# Altium schematic symbol library TVS2200DRVR.SchLib: 1 symbol
Pins are listed as number, name and electrical type; pins without a type are passive.

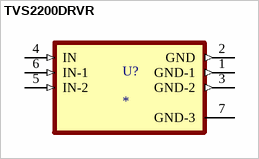
[diagram p0: symbol TVS2200DRVR]

## TVS2200DRVR
designator U?
22V flat-clamp surge protection device; MF: Texas Instruments; MP: TVS2200DRVR; SnapEDA_Link: https://www.snapeda.com/parts/TVS2200DRVR/Texas+Instruments/view-part/?ref=snap; Package: WSON-6 Texas Instruments; Value: *; Check_prices: https://www.snapeda.com/parts/TVS2200DRVR/Texas+Instruments/view-part/?ref=eda
footprint SON65P200X200X80-7N
pins: 1 GND-1 (out), 2 GND (out), 3 GND-2 (out), 4 IN (in), 5 IN-2 (in), 6 IN-1 (in), 7 GND-3 (power)